# Altium schematic symbol library Schlib_k60_core.SchLib: 16 symbols
Pins are listed as number, name and electrical type; pins without a type are passive.

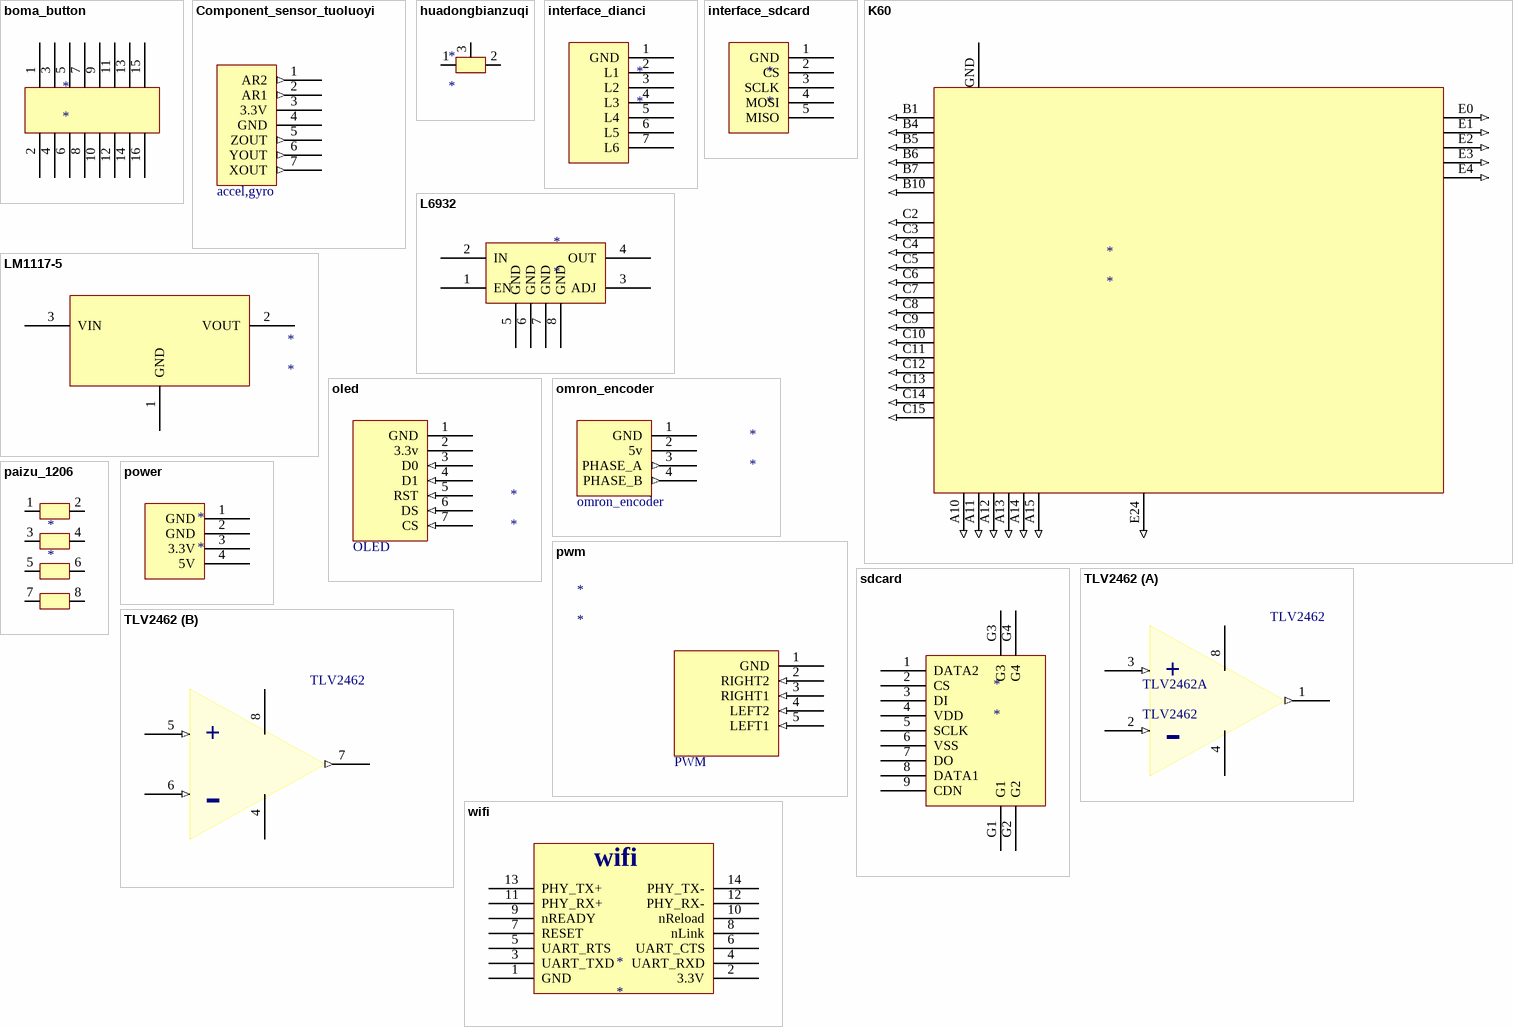
[diagram p0: symbols boma_button to wifi]

## boma_button
designator *
pins: 1 (power), 2 (power), 3 (power), 4 (power), 5 (power), 6 (power), 7 (power), 8 (power), 9 (power), 10 (power), 11 (power), 12 (power), 13 (power), 14 (power), 15 (power), 16 (power)

## Component_sensor_tuoluoyi
designator *
footprint Model Name (Model Description)
pins: 1 AR2 (out), 2 AR1 (out), 3 3.3V (power), 4 GND, 5 ZOUT (out), 6 YOUT (out), 7 XOUT (out)
text: accel,gyro

## huadongbianzuqi
designator *
footprint 滑动变阻器
pins: 1 (power), 2 (power), 3 (power)

## interface_dianci
designator *
pins: 1 GND (power), 2 L1 (power), 3 L2 (power), 4 L3 (power), 5 L4 (power), 6 L5 (power), 7 L6 (power)

## interface_sdcard
designator *
pins: 1 GND (power), 2 CS (power), 3 SCLK (power), 4 MOSI (power), 5 MISO (power)

## K60
designator *
pins: A10 (in), A11 (in), A12 (in), A13 (in), A14 (in), A15 (in), B1 (in), B4 (in), B5 (in), B6 (in), B7 (in), B10 (in), C2 (in), C3 (in), C4 (in), C5 (in), C6 (in), C7 (in), C8 (in), C9 (in), C10 (in), C11 (in), C12 (in), C13 (in), C14 (in), C15 (in), E0 (in), E1 (in), E2 (in), E3 (in), E4 (in), E24 (in), GND

## L6932
designator *
pins: 1 EN (power), 2 IN (power), 3 ADJ (power), 4 OUT (power), 5 GND (power), 6 GND (power), 7 GND (power), 8 GND (power)

## LM1117-5
designator *
footprint Model Name (Model Description)
pins: 1 GND (power), 2 VOUT (power), 3 VIN (power)

## oled
designator *
footprint Model Name (Model Description)
pins: 1 GND, 2 3.3v (power), 3 D0 (in), 4 D1 (in), 5 RST (in), 6 DS (in), 7 CS (in)
text: OLED

## omron_encoder
designator *
pins: 1 GND (power), 2 5v (power), 3 PHASE_A (out), 4 PHASE_B (out)

## paizu_1206
designator *
pins: 1 (power), 2 (power), 3 (power), 4 (power), 5 (power), 6 (power), 7 (power), 8 (power)

## power
designator *
pins: 1 GND (power), 2 GND (power), 3 3.3V (power), 4 5V (power)

## pwm
designator *
pins: 1 GND (power), 2 RIGHT2 (in), 3 RIGHT1 (in), 4 LEFT2 (in), 5 LEFT1 (in)
text: PWM

## sdcard
designator *
pins: 1 DATA2 (power), 2 CS (power), 3 DI (power), 4 VDD (power), 5 SCLK (power), 6 VSS (power), 7 DO (power), 8 DATA1 (power), 9 CDN (power), G1 (power), G2 (power), G3 (power), G4 (power)

## TLV2462
designator TLV2462
footprint SOP127P600X175-8L (SOP, 8-Leads, Body 4.90x3.90mm, Pitch 1.27mm, IPC High Density)
part A pins: 1 (out), 2 (in), 3 (in), 4 GND (power), 8 VCC (power)
part B pins: 4 GND (power), 5 (in), 6 (in), 7 (out), 8 VCC (power)
part A text: +; -
part B text: +; -

## wifi
designator *
pins: 1 GND (power), 2 3.3V (power), 3 UART_TXD (power), 4 UART_RXD (power), 5 UART_RTS (power), 6 UART_CTS (power), 7 RESET (power), 8 nLink (power), 9 nREADY (power), 10 nReload (power), 11 PHY_RX+ (power), 12 PHY_RX- (power), 13 PHY_TX+ (power), 14 PHY_TX- (power)